# EAGLE library part AD9515 (library analog-devices)
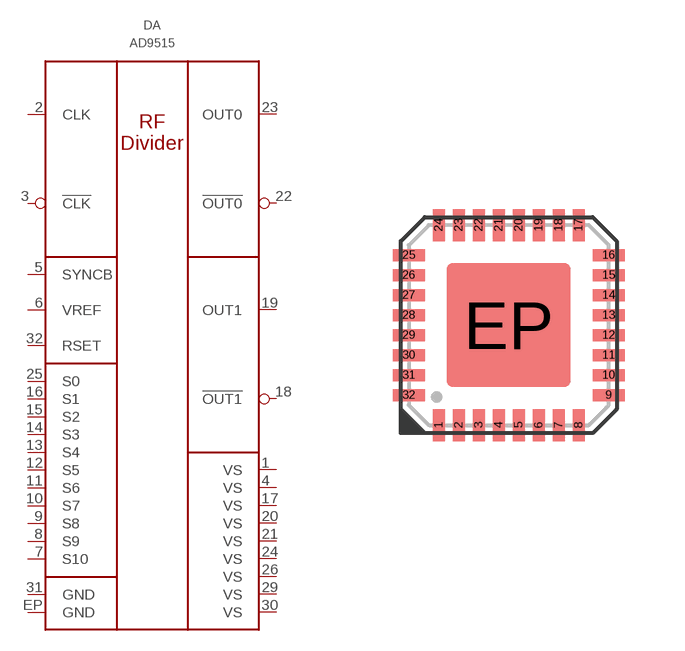
[diagram p14: symbol with the pads of LFCSP-32; footprint LFCSP-32]

Designator prefix DA

## AD9515BCPZ  [LFCSP-32]
1  VS  pwr
2  CLK  in
3  !CLK  in
4  VS  pwr
5  SYNCB  in
6  VREF  pas
7  S10  in
8  S9  in
9  S8  in
10  S7  in
11  S6  in
12  S5  in
13  S4  in
14  S3  in
15  S2  in
16  S1  in
17  VS  pwr
18  !OUT1  out
19  OUT1  out
20  VS  pwr
21  VS  pwr
22  !OUT0  out
23  OUT0  out
24  VS  pwr
25  S0  in
26  VS  pwr
29  VS  pwr
30  VS  pwr
31  GND  pwr
32  RSET  pas
EP  GND  pwr

## AD9515BCPZ-REEL7  [LFCSP-32]
Pads as for LFCSP-32

## Footprint LFCSP-32 (pad centres in mm)
smd 0.3 x 0.8: 1 -1.75,-2.5; 2 -1.25,-2.5; 3 -0.75,-2.5; 4 -0.25,-2.5; 5 0.25,-2.5; 6 0.75,-2.5; 7 1.25,-2.5; 8 1.75,-2.5; 17 1.75,2.5; 18 1.25,2.5; 19 0.75,2.5; 20 0.25,2.5; 21 -0.25,2.5; 22 -0.75,2.5; 23 -1.25,2.5; 24 -1.75,2.5
smd 0.8 x 0.3: 9 2.5,-1.75; 10 2.5,-1.25; 11 2.5,-0.75; 12 2.5,-0.25; 13 2.5,0.25; 14 2.5,0.75; 15 2.5,1.25; 16 2.5,1.75; 25 -2.5,1.75; 26 -2.5,1.25; 27 -2.5,0.75; 28 -2.5,0.25; 29 -2.5,-0.25; 30 -2.5,-0.75; 31 -2.5,-1.25; 32 -2.5,-1.75
smd 3.1 x 3.1: EP 0,0